# EAGLE library part SW87XX (library jt-con-molex)
Sierra Wireless MC87xx and MC57xx modems
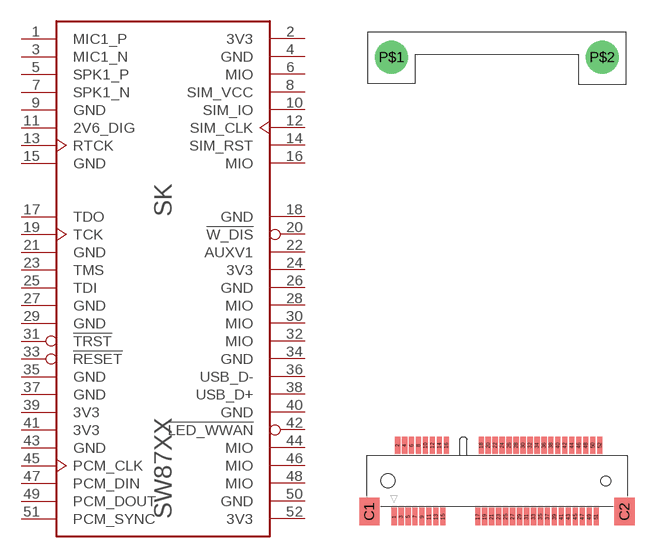
[diagram p2: symbol with the pads of 67910-MINI-PCIE; footprint 67910-MINI-PCIE]

Designator prefix SK

## SW87XX  [67910-MINI-PCIE]
1  MIC1_P  in
2  3V3  pwr
3  MIC1_N  in
4  GND  pwr
5  SPK1_P  out
6  MIO
7  SPK1_N  out
8  SIM_VCC  pwr
9  GND  pwr
10  SIM_IO
11  2V6_DIG  pwr
12  SIM_CLK  out
13  RTCK  out
14  SIM_RST  out
15  GND  pwr
16  MIO
17  TDO  out
18  GND  pwr
19  TCK  in
20  !W_DIS  in
21  GND  pwr
22  AUXV1  in
23  TMS  in
24  3V3  pwr
25  TDI  in
26  GND  pwr
27  GND  pwr
28  MIO  pwr
29  GND  pwr
30  MIO
31  !TRST  in
32  MIO
33  !RESET  in
34  GND  pwr
35  GND  pwr
36  USB_D-
37  GND  pwr
38  USB_D+
39  3V3  pwr
40  GND  pwr
41  3V3  pwr
42  !LED_WWAN
43  GND  pwr
44  MIO
45  PCM_CLK  out
46  MIO
47  PCM_DIN  in
48  MIO
49  PCM_DOUT  out
50  GND  pwr
51  PCM_SYNC  in
52  3V3  pwr

## Footprint 67910-MINI-PCIE (pad centres in mm)
67910 Mini PCI-E
smd 0.6 x 2: 1 0,0; 2 0.4,8.2; 3 0.8,0; 4 1.2,8.2; 5 1.6,0; 6 2,8.2; 7 2.4,0; 8 2.8,8.2; 9 3.2,0; 10 3.6,8.2; 11 4,0; 12 4.4,8.2; 13 4.8,0; 14 5.2,8.2; 15 5.6,0; 16 6,8.2; 17 9.6,0; 18 10,8.2; 19 10.4,0; 20 10.8,8.2; 21 11.2,0; 22 11.6,8.2; 23 12,0; 24 12.4,8.2; 25 12.8,0; 26 13.2,8.2; 27 13.6,0; 28 14,8.2; 29 14.4,0; 30 14.8,8.2; 31 15.2,0; 32 15.6,8.2; 33 16,0; 34 16.4,8.2; 35 16.8,0; 36 17.2,8.2; 37 17.6,0; 38 18,8.2; 39 18.4,0; 40 18.8,8.2; 41 19.2,0; 42 19.6,8.2; 43 20,0; 44 20.4,8.2; 45 20.8,0; 46 21.2,8.2; 47 21.6,0; 48 22,8.2; 49 22.4,0; 50 22.8,8.2; 51 23.2,0; 52 23.6,8.2
smd 2.3 x 3.2: C1 -2.85,0.6; C2 26.45,0.6
drill 2.8 pad 3.81: P$1 -0.3,52.7; P$2 23.9,52.7
hole 1.6 at -0.7,4.1
hole 1.1 at 24.3,4.1